# Altium schematic symbol library 0.1 Ohm 1W res TH.SchLib: 1 symbol
Pins are listed as number, name and electrical type; pins without a type are passive.

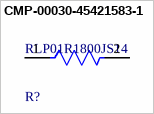
[diagram p0: symbol CMP-00030-45421583-1]

## CMP-00030-45421583-1
designator R?, comment RLP01R1800JS14
RLP01R1800JS14 Resistor, 180 Milliohms, ± 5%, 1 W, Axial Leaded, Wirewound, Precision; NexarPartId: 45421583; Power Rating: 1W; Voltage Rating: 50V; Temperature Coefficient: 100ppm/°C; Resistance: 180mΩ; Mount: Through Hole; RoHS: Compliant; Case/Package: Axial; Length: 7mm; Min Operating Temperature: -55°C; Composition: Wirewound; Height: 2.5mm; Max Operating Temperature: 275°C; Radiation Hardening: No; Tolerance: 5%; Contact Plating: Tin; Diameter: 2.5mm
footprint FP-RLP01-MFG
pins: 1, 2